# Altium footprint library SAMTEC_SSQ-104-01-T-S-LL.PcbLib: 1 footprints
Each footprint in its own frame and in the unit in brackets; x right, y up, seen from the top. Pads: shape width x height; smd on the part's side, far side on the other; paste and mask are expansions set on the pad; w line width, h text height; cw(c..) or ccw(c..) is an arc to the next point about the centre after c.
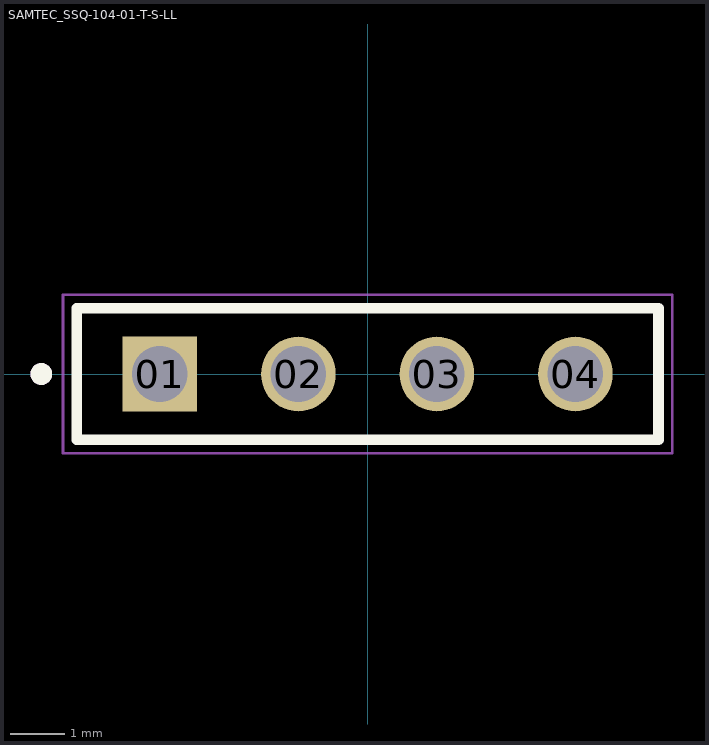
[diagram p0: the footprint, top view; thin cyan lines are the x and y axes]

## SAMTEC_SSQ-104-01-T-S-LL [mm]
pads (4):
  rect 1.37x1.37 / inner round 1.37 / far side rect 1.37x1.37 hole 1.02: 01(-3.81,0)
  round 1.37 hole 1.02: 02(-1.27,0) 03(1.27,0) 04(3.81,0)
Top Overlay:
  circle w0.2: c-5.985,0 r0.1
  lines w0.2: -5.335,-1.205 5.335,-1.205 5.335,1.205 -5.335,1.205 -5.335,-1.205
Mechanical 13:
  circle w0.2: c-5.985,0 r0.1
  lines w0.1: -5.335,-1.205 -5.335,1.205 ; -5.335,-1.205 5.335,-1.205 ; -5.335,-1.205 -5.335,1.205 ; -5.335,1.205 5.335,1.205 ; -5.335,1.205 5.335,1.205 ; 5.335,-1.205 5.335,1.205 ; 5.335,-1.205 5.335,1.205
Mechanical 15:
  lines w0.05: -5.585,-1.455 5.585,-1.455 5.585,1.455 -5.585,1.455 -5.585,-1.455
3D body "SSQ-104-01-T-S-LL.stp": height 8.51, standoff -2.64, extent -5.334,-1.206 5.334,1.206